# EAGLE library part U_INS (library 000_CustomPartsMaster)
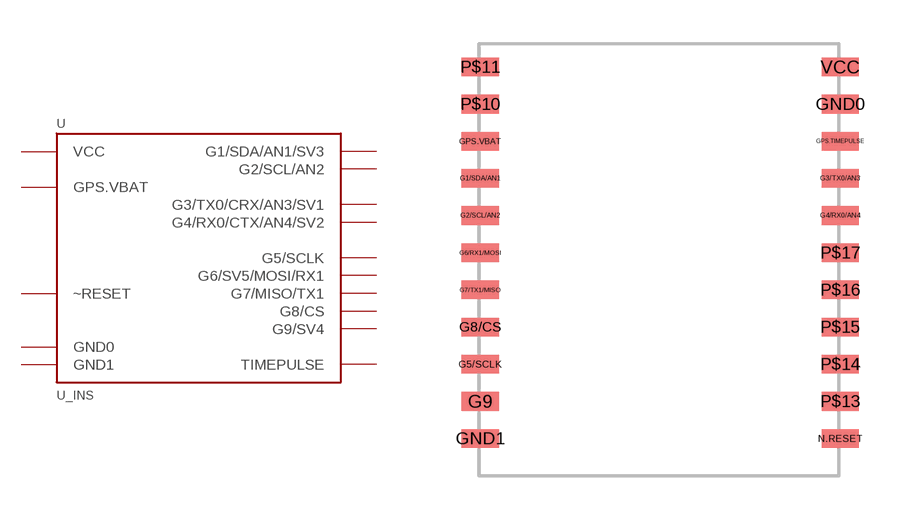
[diagram p29: symbol with the pads of U_INS; footprint U_INS]

Designator prefix -

## U_INS  [U_INS]
G1/SDA/AN1  G1/SDA/AN1/SV3
G2/SCL/AN2  G2/SCL/AN2
G3/TX0/AN3  G3/TX0/CRX/AN3/SV1
G4/RX0/AN4  G4/RX0/CTX/AN4/SV2
G5/SCLK  G5/SCLK
G6/RX1/MOSI  G6/SV5/MOSI/RX1
G7/TX1/MISO  G7/MISO/TX1
G8/CS  G8/CS
G9  G9/SV4
GND0  GND0
GND1  GND1
GPS.TIMEPULSE  TIMEPULSE
GPS.VBAT  GPS.VBAT
N.RESET  ~RESET
VCC  VCC

## Footprint U_INS (pad centres in mm)
smd 1.27 x 0.635: G1/SDA/AN1 1.27,10.16; G2/SCL/AN2 1.27,8.89; G3/TX0/AN3 13.57,10.16; G4/RX0/AN4 13.57,8.89; G5/SCLK 1.27,3.81; G6/RX1/MOSI 1.27,7.62; G7/TX1/MISO 1.27,6.35; G8/CS 1.27,5.08; G9 1.27,2.54; GND0 13.57,12.7; GND1 1.27,1.27; GPS.TIMEPULSE 13.57,11.43; GPS.VBAT 1.27,11.43; N.RESET 13.57,1.27; P$10 1.27,12.7; P$11 1.27,13.97; P$13 13.57,2.54; P$14 13.57,3.81; P$15 13.57,5.08; P$16 13.57,6.35; P$17 13.57,7.62; VCC 13.57,13.97